# EAGLE library part AXK7L28227G(LI-VM01CM) (library user)
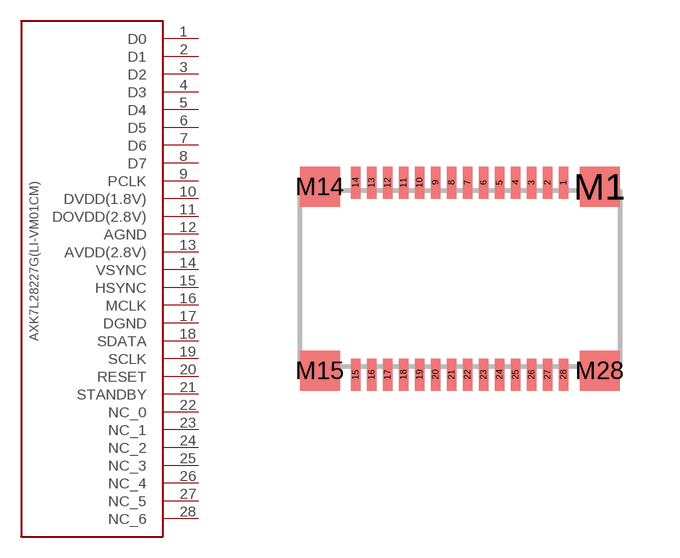
[diagram p1: symbol with the pads of AXK7L28227G; footprint AXK7L28227G]

Designator prefix -

## AXK7L28227G(LI-VM01CM)  [AXK7L28227G]
1  D0  out
2  D1  out
3  D2  out
4  D3  out
5  D4  out
6  D5  out
7  D6  out
8  D7  out
9  PCLK  out
10  DVDD(1.8V)  pwr
11  DOVDD(2.8V)  pwr
12  AGND  sup
13  AVDD(2.8V)  pwr
14  VSYNC  in
15  HSYNC  in
16  MCLK  in
17  DGND  sup
18  SDATA
19  SCLK  in
20  RESET  in
21  STANDBY  in
22  NC_0  nc
23  NC_1  nc
24  NC_2  nc
25  NC_3  nc
26  NC_4  nc
27  NC_5  nc
28  NC_6  nc

## Footprint AXK7L28227G (pad centres in mm)
smd 0.23 x 0.8: 1 0.6,2.4; 2 0.2,2.4; 3 -0.2,2.4; 4 -0.6,2.4; 5 -1,2.4; 6 -1.4,2.4; 7 -1.8,2.4; 8 -2.2,2.4; 9 -2.6,2.4; 10 -3,2.4; 11 -3.4,2.4; 12 -3.8,2.4; 13 -4.2,2.4; 14 -4.6,2.4; 15 -4.6,-2.4; 16 -4.2,-2.4; 17 -3.8,-2.4; 18 -3.4,-2.4; 19 -3,-2.4; 20 -2.6,-2.4; 21 -2.2,-2.4; 22 -1.8,-2.4; 23 -1.4,-2.4; 24 -1,-2.4; 25 -0.6,-2.4; 26 -0.2,-2.4; 27 0.2,-2.4; 28 0.6,-2.4
smd 1 x 1: M1 1.5,2.3; M14 -5.5,2.3; M15 -5.5,-2.3; M28 1.5,-2.3